# Altium schematic symbol library Capacitors.SchLib: 9 symbols
Pins are listed as number, name and electrical type; pins without a type are passive.

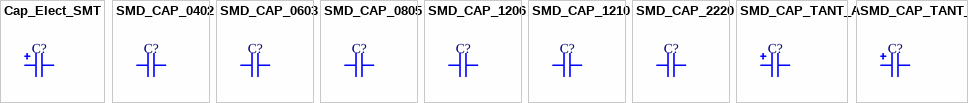
[diagram p0: symbols Cap_Elect_SMT to SMD_CAP_TANT_B]

## Cap_Elect_SMT
designator C?  (value not drawn)
SMT Electrolytic Capacitor; Part Number: Capacitor SMT EEEFK Series; Tolerance: *; Voltage: *; Value: *
footprint EEEFK_D8
pins: 1, 2

## SMD_CAP_0402
designator C?, comment Cap_0402  (value not drawn)
SMD Ceramic Capacitor; Part Number: Capacitor SMD 0402; Tolerance: *; Voltage: *; Value: *
footprint C0402 (1005M)
pins: 1, 2

## SMD_CAP_0603
designator C?, comment Cap_0603  (value not drawn)
SMD Ceramic Capacitor; Part Number: Capacitor SMD 0603; Tolerance: *; Voltage: *; Value: *
footprint C0603 (1608M)
pins: 1, 2

## SMD_CAP_0805
designator C?, comment Cap_0805  (value not drawn)
SMD Ceramic Capacitor; Part Number: Capacitor SMD 0805; Tolerance: *; Voltage: *; Value: *
footprint C0805 (2012M)
pins: 1, 2

## SMD_CAP_1206
designator C?, comment Cap_1206  (value not drawn)
SMD Ceramic Capacitor; Part Number: Capacitor SMD 1206; Tolerance: *; Voltage: *; Value: *
footprint C1206 (3216M)
pins: 1, 2

## SMD_CAP_1210
designator C?, comment Cap_1210  (value not drawn)
SMD Ceramic Capacitor; Part Number: Capacitor SMD 1210; Tolerance: *; Voltage: *; Value: *
footprint C1210 (3225M)
pins: 1, 2

## SMD_CAP_2220
designator C?, comment Cap_2220  (value not drawn)
SMD Ceramic Capacitor; Part Number: Capacitor SMD 2220; Tolerance: *; Voltage: *; Value: *
footprint C2220 (5750M)
pins: 1, 2

## SMD_CAP_TANT_A
designator C?, comment Cap_TANT_A  (value not drawn)
SMD Tantalum Capacitor; Part Number: Capacitor SMD TANT-A(3216); Tolerance: *; Voltage: *; Value: *
footprint C3216-p (Type A)
pins: 1, 2

## SMD_CAP_TANT_B
designator C?, comment Cap_TANT_B  (value not drawn)
SMD Tantalum Capacitor; Part Number: Capacitor SMD TANT-B(3528); Tolerance: *; Voltage: *; Value: *
footprint C3528-p (Type B)
pins: 1, 2